# EAGLE library part DPDT_I2C_SPI (library range_cape)
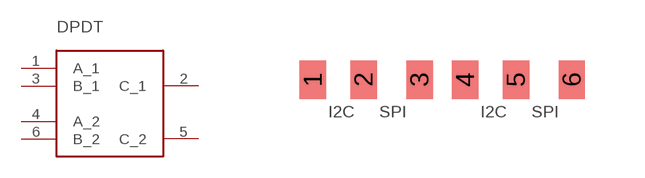
[diagram p4: symbol with the pads of DPDT; footprint DPDT]

Designator prefix -

## DPDT_I2C_SPI  [DPDT]
1  A_1
2  C_1
3  B_1
4  A_2
5  C_2
6  B_2

## Footprint DPDT (pad centres in mm)
smd 0.66 x 0.965: 1 -0.699,0; 2 0.572,0; 3 1.968,0; 4 3.111,0; 5 4.381,0; 6 5.779,0